# Altium footprint library PcbLib1.PcbLib: 4 footprints
Each footprint in its own frame and in the unit in brackets; x right, y up, seen from the top. Pads: shape width x height; smd on the part's side, far side on the other; paste and mask are expansions set on the pad; w line width, h text height; cw(c..) or ccw(c..) is an arc to the next point about the centre after c.
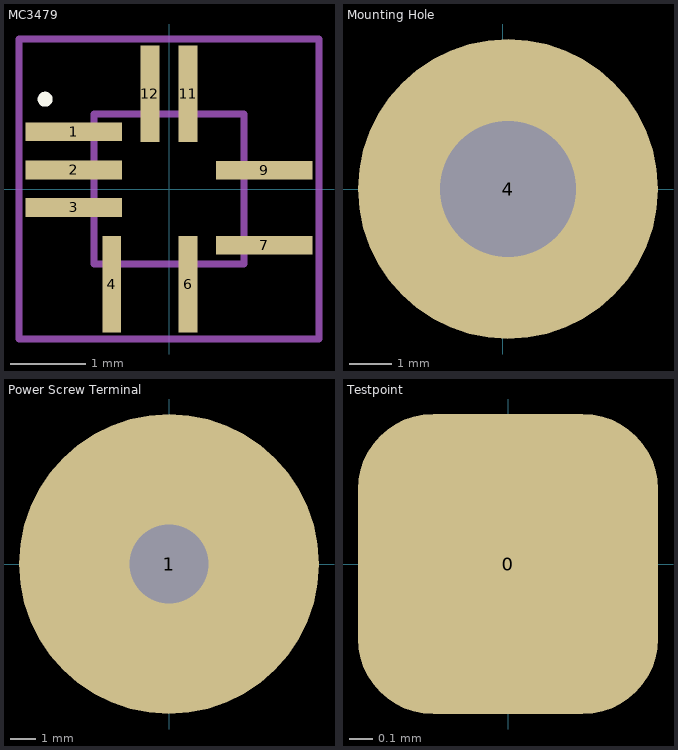
[diagram p0: the footprints below, top view; thin cyan lines are the x and y axes]

## MC3479 [mm]
pads (9):
  rect 1.291x0.25 smd: 1(-1.27,0.762) 2(-1.27,0.254) 3(-1.27,-0.246) 7(1.271,-0.75) 9(1.271,0.25)
  rect 0.25x1.291 smd: 4(-0.762,-1.27) 6(0.254,-1.27) 11(0.254,1.27) 12(-0.254,1.27)
Top Overlay:
  lines w0.1: -1.651,1.147 ccw(c-1.651,1.197) -1.651,1.247 ccw(c-1.651,1.197) -1.651,1.147
Mechanical 13:
  lines w0.1: -1,-1 -1,1 1,1 1,-1 -1,-1
Mechanical 15:
  lines w0.1: -2,-2 -2,2 2,2 2,-2 -2,-2
3D body "MC3479.stp": height 0.99, standoff 0, extent -1.003,-1.003 1.003,1.003

## Mounting Hole [mm]
pads (1):
  round 7 hole 3.175: 4(0.127,0)

## Power Screw Terminal [mm]
pads (1):
  round 12 hole 3.175: 1(0,0)

## Testpoint [mil]
pads (1):
  rrect50% 50x50 smd: 0(0,0)